# EAGLE library part LCD_SHIELD (library uchile_robotics_eagle_lib)
LCD Shield
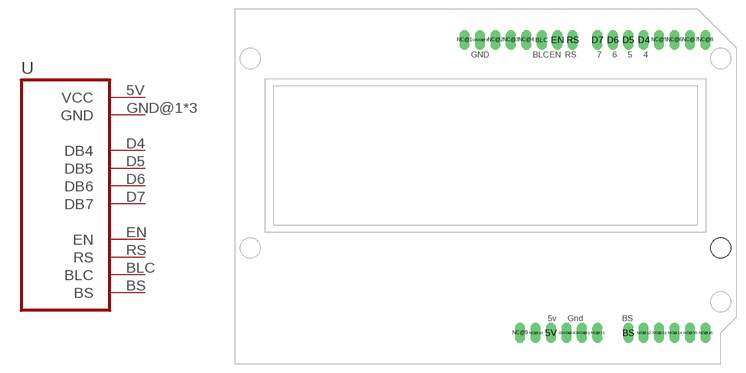
[diagram p5: symbol with the pads of LCD_SHIELD; footprint LCD_SHIELD]

Designator prefix -

## LCD_SHIELD  [LCD_SHIELD]
5V  VCC  pwr
BLC  BLC
BS  BS  out
D4  DB4
D5  DB5
D6  DB6
D7  DB7
EN  EN
GND@1  GND  pwr
GND@2  GND  pwr
GND@3  GND  pwr
RS  RS

## Footprint LCD_SHIELD (pad centres in mm)
drill 1 pad 1.676 long: 5V 52.07,5.08; BLC 50.546,53.34; BS 64.77,5.08; D4 67.31,53.34; D5 64.77,53.34; D6 62.23,53.34; D7 59.69,53.34; EN 53.086,53.34; GND@1 57.15,5.08; GND@2 54.61,5.08; GND@3 40.386,53.34; NC@1 37.846,53.34; NC@2 42.926,53.34; NC@3 45.466,53.34; NC@4 48.006,53.34; NC@5 69.85,53.34; NC@6 72.39,53.34; NC@7 74.93,53.34; NC@8 77.47,53.34; NC@9 46.99,5.08; NC@10 49.53,5.08; NC@11 59.69,5.08; NC@12 67.31,5.08; NC@13 69.85,5.08; NC@14 72.39,5.08; NC@15 74.93,5.08; NC@16 77.47,5.08; RS 55.626,53.34